# EAGLE library part 3310PANEL_NONUM (library mastrogippo)
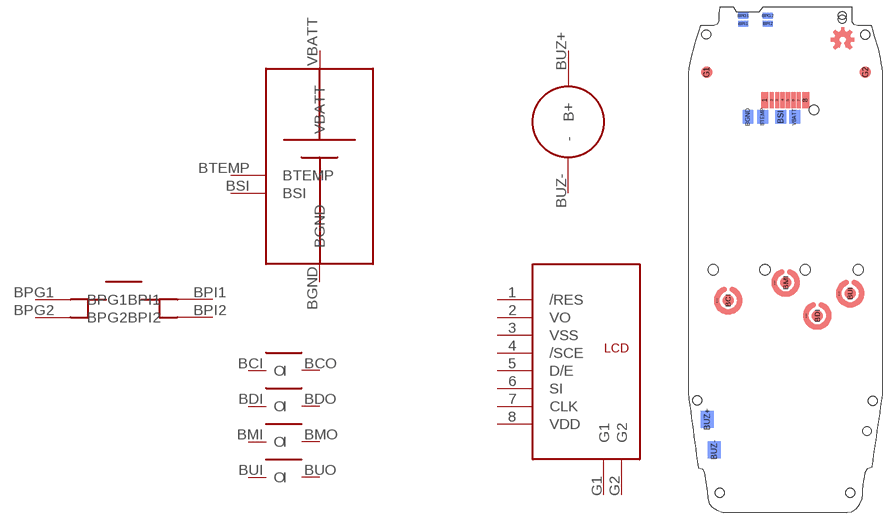
[diagram p6: symbol with the pads of 3310BRD_NONUM; footprint 3310BRD_NONUM]

Designator prefix -; gates G$1=3310LCD G$2=3310KEYB G$3=3310KEYB G$4=3310KEYB G$5=3310KEYB G$6=3310BATT G$7=3310BUZZ G$8=3310BTN

## 3310PANEL_NONUM  [3310BRD_NONUM]
1  G$1:/RES
2  G$1:VO
3  G$1:VSS
4  G$1:/SCE
5  G$1:D/E
6  G$1:SI
7  G$1:CLK
8  G$1:VDD
BCI  G$2:I
BCO  G$2:O
BDI  G$3:I
BDO  G$3:O
BGND  G$6:BGND
BMI  G$4:I
BMO  G$4:O
BPG1  G$8:BPG1
BPG2  G$8:BPG2
BPI1  G$8:BPI1
BPI2  G$8:BPI2
BSI  G$6:BSI
BTEMP  G$6:BTEMP
BUI  G$5:I
BUO  G$5:O
BUZ+  G$7:B+
BUZ-  G$7:-
G1  G$1:G1
G2  G$1:G2
VBATT  G$6:VBATT

## Footprint 3310BRD_NONUM (pad centres in mm)
smd 1.5 x 3.429: 1 -5.166,19.08; 8 3.512,19.08
smd 0.889 x 3.429: 2 -3.698,19.08; 3 -2.55,19.08; 4 -1.401,19.08; 5 -0.243,19.08; 6 0.926,19.08; 7 2.054,19.08
smd 2.5 x 2.5: BCI -13,-23.72; BDI 6.05,-26.97; BMI -0.7,-19.92; BUI 13.05,-22.22; G1 -17.6,25.08; G2 16.3,25.08
smd 0.406 x 0.813: BCO -15.3,-23.77; BDO 3.75,-27.02; BMO -3,-19.97; BUO 10.75,-22.27
smd 2.3 x 2.8 bottom: BGND -8.8,15.5; BSI -1.8,15.5; BTEMP -5.6,15.5; VBATT 1.2,15.5
smd 2.15 x 1.25 bottom: BPG1 -9.8,37.1; BPG2 -4.6,37.1; BPI1 -9.8,35.4; BPI2 -4.6,35.4
smd 2.8 x 3.6 bottom: BUZ+ -17.5,-49.1; BUZ- -16,-55.6
hole 1.905 at 16.295,33.029
hole 2 at 5.3,16.98
hole 1.905 at -17.705,33.129
hole 1.905 at 13.045,-64.821
hole 1.905 at -14.805,-64.771
hole 1.905 at -19.655,-45.071
hole 1.905 at 17.845,-45.121
hole 1.7 at 11.35,37.18
hole 1.7 at 11.35,36.38
hole 2.2 at -16.2,-17.12
hole 2.2 at -5.15,-17.12
hole 2.2 at 3.45,-17.12
hole 2.2 at 14.75,-17.12
hole 1.8 at 16.65,-51.62